# Altium schematic symbol library pinghengche (2).SchLib: 32 symbols
Pins are listed as number, name and electrical type; pins without a type are passive.

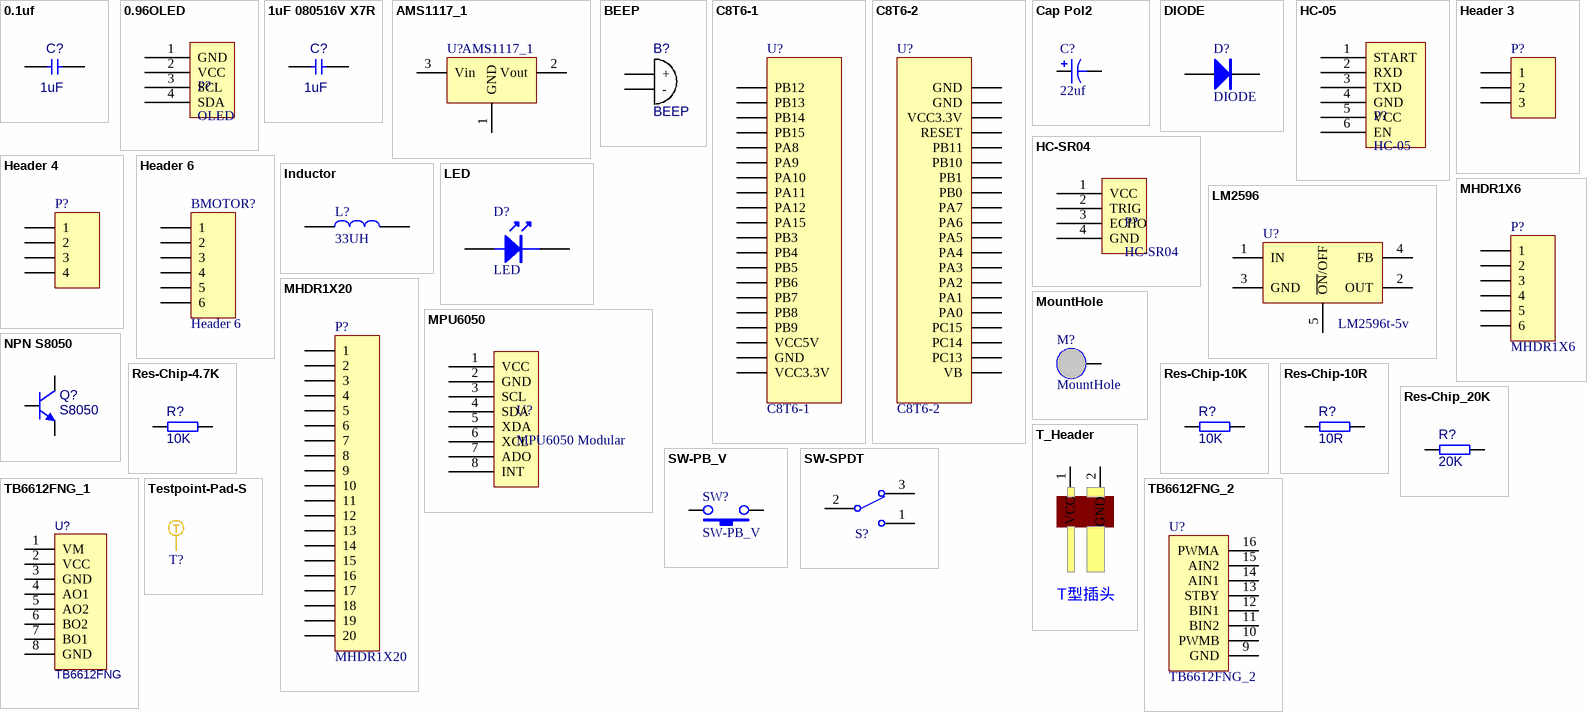
[diagram p0: symbols 0.1uf  to Testpoint-Pad-S]

## 0.1uf 
designator C?  value 1uF
贴片电容0805; Revision: V1.0
footprint C0805
pins: 1, 2

## 0.96OLED
designator P?, comment OLED
0.96寸OLED屏，GND开头
footprint HDR2.54-M-LI-4P (排母，4脚)
pins: 1 GND, 2 VCC, 3 SCL, 4 SDA

## 1uF 080516V X7R
designator C?  value 1uF
贴片电容0805; Revision: V1.0
footprint C0805
pins: 1, 2

## AMS1117_1
designator U?
3.3V电压转换器AMS1117
footprint LC-SOT-223
footprint LC-SOT-223
pins: 1 GND, 2 Vout, 3 Vin

## BEEP
designator B?
蜂鸣器
footprint BEEP 9x5.5mm
footprint BEEP 9x5.5mm
pins: 1 +, 2 -

## C8T6-1
designator U?
stm32f103c8t6扩展接口
footprint HDR2.54-M-LI-20P (排母，20脚)
pins: 1 PB12, 2 PB13, 3 PB14, 4 PB15, 5 PA8, 6 PA9, 7 PA10, 8 PA11, 9 PA12, 10 PA15, 11 PB3, 12 PB4, 13 PB5, 14 PB6, 15 PB7, 16 PB8, 17 PB9, 18 VCC5V, 19 GND, 20 VCC3.3V

## C8T6-2
designator U?
stm32f103c8t6扩展接口
footprint HDR2.54-M-LI-20P (排母，20脚)
pins: 1 GND, 2 GND, 3 VCC3.3V, 4 RESET, 5 PB11, 6 PB10, 7 PB1, 8 PB0, 9 PA7, 10 PA6, 11 PA5, 12 PA4, 13 PA3, 14 PA2, 15 PA1, 16 PA0, 17 PC15, 18 PC14, 19 PC13, 20 VB

## Cap Pol2
designator C?, comment 22uf
Polarized Capacitor (Axial); Published: 8-Jun-2000; LatestRevisionDate: 17-Jul-2002; LatestRevisionNote: Re-released for DXP Platform.; PackageReference: POLAR0.8; Publisher: Altium Limited; PackageDescription: Polarized Capacitor; 2 Leads
footprint LC-0805_R
simulation model CAP (Capacitor)
signal-integrity model Cap Pol
pins: 1, 2
1 alternate drawing of the same symbol

## DIODE
designator D?
SS34
footprint LC-DO-213AB
pins: 1, 2

## HC-05
designator P?
HC-05 这里只用到了其4个管脚
footprint HDR2.54-M-LI-8P (排母，8脚)
pins: 1 START, 2 RXD, 3 TXD, 4 GND, 5 VCC, 6 EN

## HC-SR04
designator P?
超声波HC-SR04
footprint HDR2.54-M-LI-4P (排母，4脚)
pins: 1 VCC, 2 TRIG, 3 ECHO, 4 GND

## Header 3
designator P?
Header, 3-Pin; LatestRevisionDate: 17-Jul-2002; LatestRevisionNote: Re-released for DXP Platform.; Publisher: Altium Limited
signal-integrity model Connector
footprint HDR-TH_3P-P2.54-V-M-1
pins: 1, 2, 3

## Header 4
designator P?
Header, 4-Pin; LatestRevisionDate: 17-Jul-2002; LatestRevisionNote: Re-released for DXP Platform.; Publisher: Altium Limited
signal-integrity model Connector
footprint HDR-1X4_H (弯脚排针，4脚)
footprint HDR1X4-M
pins: 1, 2, 3, 4

## Header 6
designator BMOTOR?
Header, 6-Pin; LatestRevisionDate: 17-Jul-2002; LatestRevisionNote: Re-released for DXP Platform.; Publisher: Altium Limited
footprint HDR1X6 (Connector; Header; 6 Position)
signal-integrity model Connector
pins: 1, 2, 3, 4, 5, 6

## Inductor
designator L?, comment 33UH
footprint 330电感
pins: 1, 2

## LED
designator D?
0805
footprint LED 0805G (绿色0805LED)
pins: 1, 2

## LM2596
designator U?, comment LM2596t-5v
Simple Switcher 3A Step Down Voltage Regulator; Note: Tab is connected to GND; Published: 15-Apr-2002; Datasheet: Latest Revision: Jun-1999; Package Reference: TS5B; Publisher: Altium Limited
footprint LC-TO-263-5
footprint LM2576
pins: 1 IN (power), 2 OUT (power), 3 GND (power), 4 FB, 5 ~{ON}/OFF

## MHDR1X6
designator P?
Header, 6-Pin; LatestRevisionDate: 17-Jul-2002; LatestRevisionNote: Re-released for DXP Platform.; Publisher: Altium Limited
footprint XH2.54-WI-6P (接插件，6P)
pins: 1, 2, 3, 4, 5, 6

## MHDR1X20
designator P?
Header, 20-Pin; LatestRevisionDate: 17-Jul-2002; LatestRevisionNote: Re-released for DXP Platform.; Publisher: Altium Limited
footprint HDR2.54-LI-20P (排针，20脚)
pins: 1, 2, 3, 4, 5, 6, 7, 8, 9, 10, 11, 12, 13, 14, 15, 16, 17, 18, 19, 20

## MountHole
designator M?  (no BOM)
固定孔
footprint M3-MountHole
pins: 1

## MPU6050
designator U?, comment MPU6050 Modular
MPU6050陀螺仪
footprint HDR2.54-M-LI-8P (排母，8脚)
pins: 1 VCC, 2 GND, 3 SCL, 4 SDA, 5 XDA, 6 XCL, 7 ADO, 8 INT

## NPN S8050
designator Q?, comment S8050
Discrete NPN Bipolar Transistor; Published: 8-Jun-2000; Revision: July-2002: Re-released for DXP Platform.; Publisher: Altium Limited; Price(RMB): 0.000; PartNumber: S8050
simulation model SS8050
footprint SOT-23 (SOT23, 3-Leads, Body 2.90x2.40mm, Pitch 0.95mm, IPC Medium Density)
pins: 1 B, 2 E, 3 C

## Res-Chip-4.7K
designator R?, comment value 10K  (hidden comment: 10K ±1%)
贴片电阻; Power: 1/8W; Revision: V1.0; Tolerance: ±1%
footprint R0805
pins: 1, 2

## Res-Chip-10K
designator R?, comment value 10K  (hidden comment: 10K ±1%)
贴片电阻; Power: 1/8W; Revision: V1.0; Tolerance: ±1%
footprint R0805
pins: 1, 2

## Res-Chip-10R
designator R?, comment value 10R  (hidden comment: 10R ±1%)
贴片电阻; Published: 8-Jun-2000; Revision: July-2002: Re-released for DXP Platform.; Tolerance: ±1%
footprint R0805
pins: 1, 2

## Res-Chip_20K
designator R?, comment value 20K  (hidden comment: 20K ±1%)
贴片电阻; Published: 8-Jun-2000; Revision: July-2002: Re-released for DXP Platform.; Tolerance: ±1%
footprint R0805
pins: 1, 2

## SW-PB_V
designator SW?
SWITCH
footprint TSW SMD-3*6*2.5 (3*6*2.5mm)
pins: 1, 2

## SW-SPDT
designator S?  (value not drawn)
单刀双掷开关 3脚船型、钮子、拨动开关 SPDT Subminiature Toggle Switch; Published: 24-Mar-1999; Publisher: Altium Limited; Price(RMB): 0.000
footprint SS12D10
pins: 1, 2, 3

## T_Header
designator DCIN?, comment T型插头
footprint Wired T-Header ThroughHole
pins: 1 VCC, 2 GND

## TB6612FNG_1
designator U?, comment TB6612FNG
电机驱动; 联系卖家 免费查找封装: 唯一出售店铺网址https://shop463601444.taobao.com
footprint HDR2.54-M-LI-8P (排母，8脚)
pins: 1 VM, 2 VCC, 3 GND, 4 AO1, 5 AO2, 6 BO2, 7 BO1, 8 GND

## TB6612FNG_2
designator U?
footprint HDR2.54-M-LI-8P (排母，8脚)
pins: 9 GND, 10 PWMB, 11 BIN2, 12 BIN1, 13 STBY, 14 AIN1, 15 AIN2, 16 PWMA

## Testpoint-Pad-S
designator T?, comment Testpoint-Pad  (value not drawn)  (no BOM)
测试点，就是个焊盘
footprint testpoint-pad-1mm
pins: 1 T